# Altium footprint library DFN-8.PcbLib: 1 footprints
Each footprint in its own frame and in the unit in brackets; x right, y up, seen from the top. Pads: shape width x height; smd on the part's side, far side on the other; paste and mask are expansions set on the pad; w line width, h text height; cw(c..) or ccw(c..) is an arc to the next point about the centre after c.
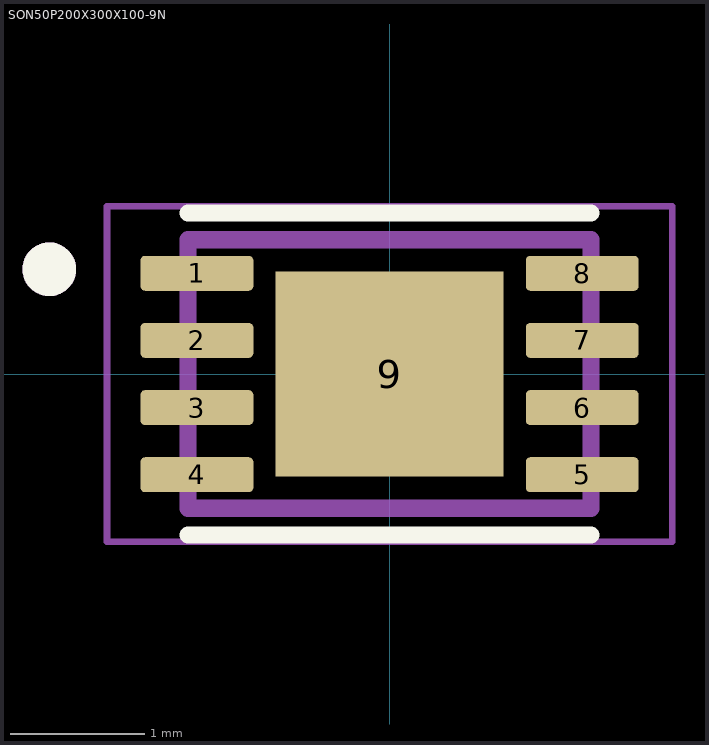
[diagram p0: the footprint, top view; thin cyan lines are the x and y axes]

## SON50P200X300X100-9N [mm]
pads (9):
  rrect25% 0.84x0.26 smd: 1(-1.435,0.75) 2(-1.435,0.25) 3(-1.435,-0.25) 4(-1.435,-0.75) 5(1.435,-0.75) 6(1.435,-0.25) 7(1.435,0.25) 8(1.435,0.75)
  rect 1.7x1.525 smd paste-0.312: 9(0,0)
Top Overlay:
  circle w0.2: c-2.535,0.78 r0.1
  lines w0.127: -1.5,-1.2 1.5,-1.2 ; -1.5,1.2 1.5,1.2
Mechanical 13:
  circle w0.2: c-2.535,0.78 r0.1
  lines w0.127: -1.5,-1 1.5,-1 1.5,1 -1.5,1 -1.5,-1
Mechanical 15:
  lines w0.05: -2.105,-1.25 -2.105,1.25 2.105,1.25 2.105,-1.25 -2.105,-1.25
3D body "DFN-8 2x3.step": height 1, standoff 0, extent -1.525,-1 1.525,1